# EAGLE library part USD-SOCKET-AMPHENOL (library CEDTv40 (1))
Amphenol Micro SD None Push Connector Part No: - 114-00841-68-1-ND
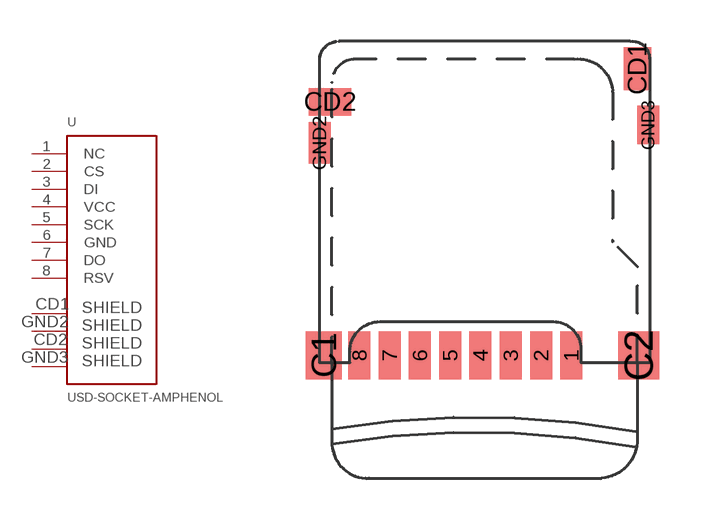
[diagram p39: symbol with the pads of USD-SOCKET-PUSHTYPE; footprint USD-SOCKET-PUSHTYPE]

Designator prefix -

## USD-SOCKET-AMPHENOL  [USD-SOCKET-PUSHTYPE]
1  NC
2  CS
3  DI
4  VCC
5  SCK
6  GND
7  DO
8  RSV
CD1  CD1
CD2  CD2
GND2  GND2
GND3  GND3

## Footprint USD-SOCKET-PUSHTYPE (pad centres in mm)
smd 0.8 x 1.75: 1 9.15,4.475; 2 8.05,4.475; 3 6.95,4.475; 4 5.85,4.475; 5 4.75,4.475; 6 3.65,4.475; 7 2.55,4.475; 8 1.45,4.475
smd 1.3 x 1.75: C1 0.15,4.475
smd 1.5 x 1.75: C2 11.6,4.475
smd 1 x 1.55: CD1 11.55,14.9
smd 1.55 x 1: CD2 0.375,13.7
smd 0.8 x 1.5: GND2 0,12.2
smd 0.8 x 1.4: GND3 11.95,12.85